# EAGLE library part INA210CIDCKR (library ruark2)
Current Sense Amplifier 1 Circuit SC-70-6 200V/V
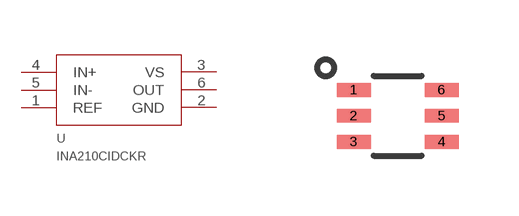
[diagram p132: symbol with the pads of SC-70; footprint SC-70]

Designator prefix U

## INA210CIDCKR (PARTNO: 296-48548-1-ND)  [SC-70]
1  REF
2  GND
3  VS
4  IN+
5  IN-
6  OUT

## Footprint SC-70 (pad centres in mm)
smd 0.85 x 0.35: 1 -1.1,0.65; 2 -1.1,0; 3 -1.1,-0.65; 4 1.1,-0.65; 5 1.1,0; 6 1.1,0.65